# Altium footprint library CN HDR 40POS 0.1 TH.PcbLib: 1 footprints
Each footprint in its own frame and in the unit in brackets; x right, y up, seen from the top. Pads: shape width x height; smd on the part's side, far side on the other; paste and mask are expansions set on the pad; w line width, h text height; cw(c..) or ccw(c..) is an arc to the next point about the centre after c.
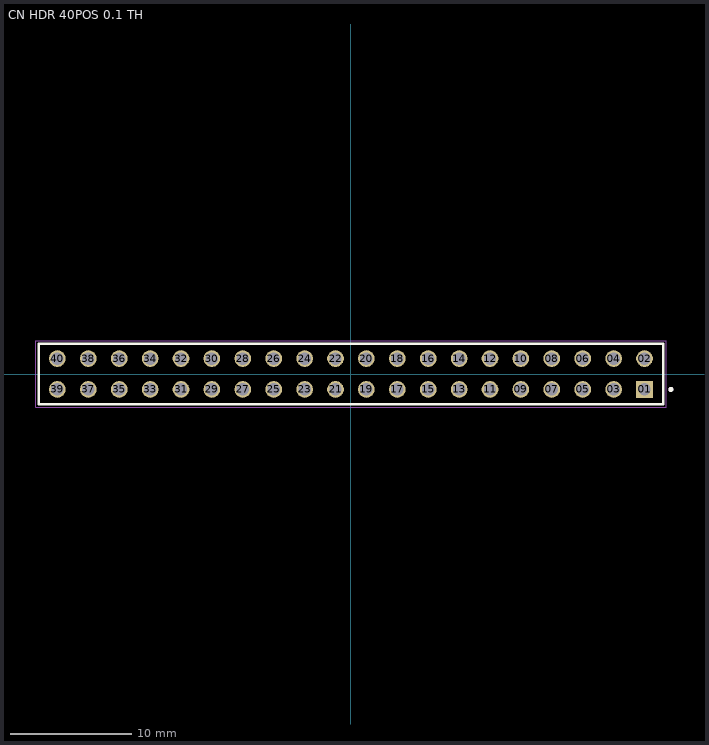
[diagram p0: the footprint, top view; thin cyan lines are the x and y axes]

## CN HDR 40POS 0.1 TH [mm] "40 Position Header Connector 0.100\" (2.54mm) Through Hole"
height 8.509
pads (40):
  rect 1.37x1.37 hole 1.02: 01(24.13,-1.27)
  round 1.37 hole 1.02: 02(24.13,1.27) 03(21.59,-1.27) 04(21.59,1.27) 05(19.05,-1.27) 06(19.05,1.27) 07(16.51,-1.27) 08(16.51,1.27) 09(13.97,-1.27) 10(13.97,1.27) 11(11.43,-1.27) 12(11.43,1.27) 13(8.89,-1.27) 14(8.89,1.27) 15(6.35,-1.27) 16(6.35,1.27) 17(3.81,-1.27) 18(3.81,1.27) 19(1.27,-1.27) 20(1.27,1.27) 21(-1.27,-1.27) 22(-1.27,1.27) 23(-3.81,-1.27) 24(-3.81,1.27) 25(-6.35,-1.27) 26(-6.35,1.27) 27(-8.89,-1.27) 28(-8.89,1.27) 29(-11.43,-1.27) 30(-11.43,1.27) 31(-13.97,-1.27) 32(-13.97,1.27) 33(-16.51,-1.27) 34(-16.51,1.27) 35(-19.05,-1.27) 36(-19.05,1.27) 37(-21.59,-1.27) 38(-21.59,1.27) 39(-24.13,-1.27) 40(-24.13,1.27)
Top Overlay:
  circle w0.2: c26.305,-1.27 r0.1
  lines w0.2: -25.655,-2.475 -25.655,2.475 25.655,2.475 25.655,-2.475 -25.655,-2.475
Mechanical 13:
  circle w0.2: c26.305,-1.27 r0.1
  lines w0.1: -25.655,-2.475 -25.655,2.475 ; -25.655,-2.475 25.655,-2.475 ; -25.655,-2.475 -25.655,2.475 ; -25.655,2.475 25.655,2.475 ; -25.655,2.475 25.655,2.475 ; 25.655,-2.475 25.655,2.475 ; 25.655,-2.475 25.655,2.475
Mechanical 15:
  lines w0.05: -25.905,-2.725 -25.905,2.725 25.905,2.725 25.905,-2.725 -25.905,-2.725